# Altium footprint library ss14.PcbLib: 1 footprints
Each footprint in its own frame and in the unit in brackets; x right, y up, seen from the top. Pads: shape width x height; smd on the part's side, far side on the other; paste and mask are expansions set on the pad; w line width, h text height; cw(c..) or ccw(c..) is an arc to the next point about the centre after c.
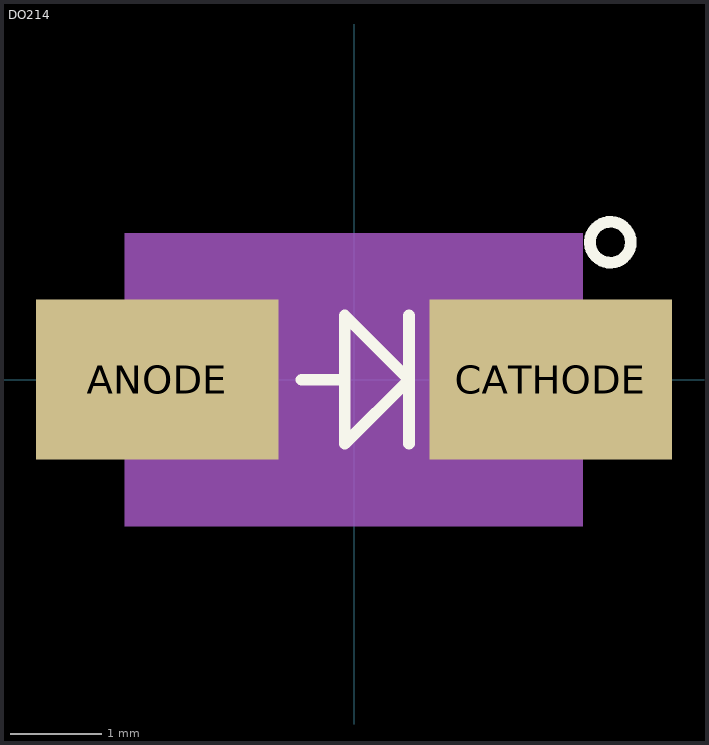
[diagram p0: the footprint, top view; thin cyan lines are the x and y axes]

## DO214 [mm]
pads (2):
  rect 2.65x1.75 smd: ANODE(-2.15,0) CATHODE(2.15,0)
Top Overlay:
  circle w0.127: c2.8,1.5 r0.224
  lines w0.127: -0.573,0 -0.1,0 ; 0.6,-0.7 0.6,0 ; 0.6,0.7 0.6,0 ; -0.1,0 -0.1,0.7 0.6,0 ; -0.1,0 -0.1,-0.7 0.6,0
Mechanical 13:
  lines w0.127: -2.375,-1.475 2.375,-1.475 2.375,1.475 -2.375,1.475 -2.375,-1.475
Mechanical 15:
  region: 2.5,-1.601 -2.502,-1.601 -2.502,1.6 2.5,1.6